# EAGLE library part STM32F373CCT6 (library pro3E)
MCU, 32BIT, CORTEX M4, 48LQFP
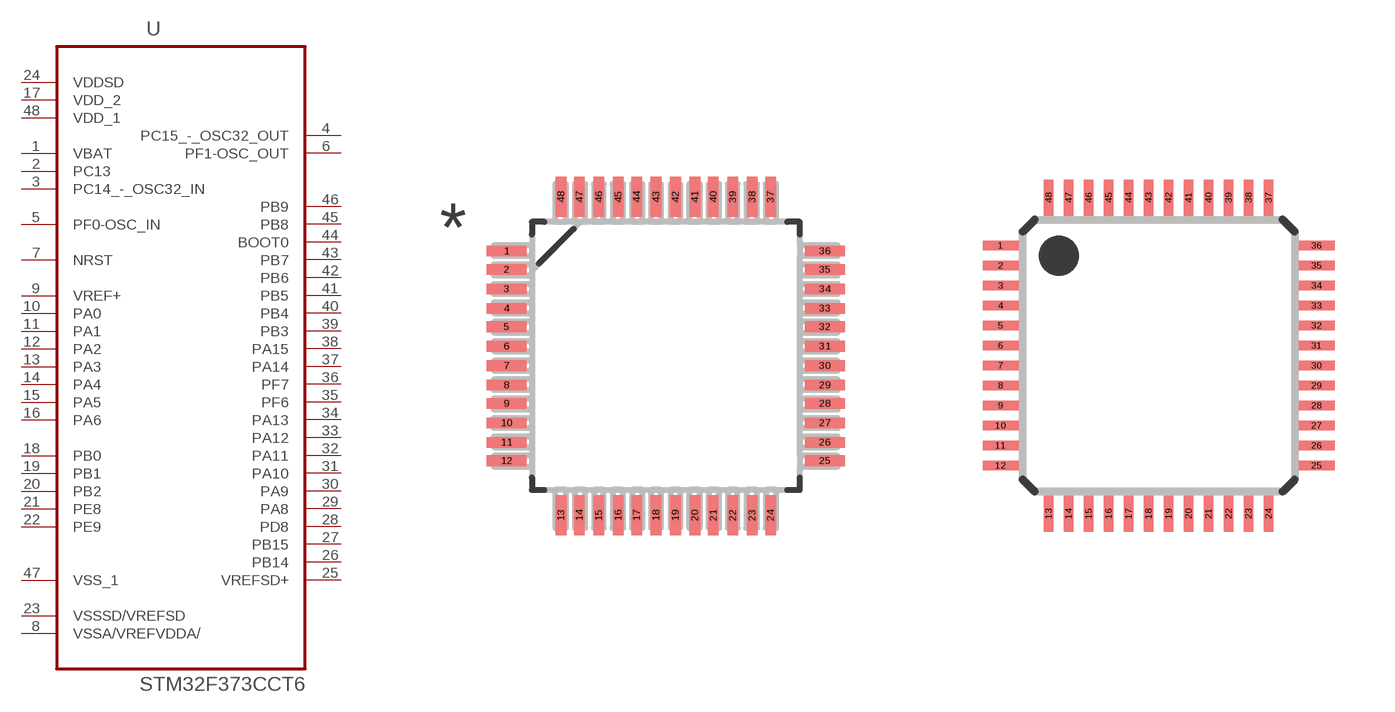
[diagram p3: symbol with the pads of QFP50P900X900X160-48N; footprints QFP50P900X900X160-48N, LQFP48-7X7]

Designator prefix U

## STM32F373CCT6 (MPN: STM32F373CCT6; OC_FARNELL: 2215117; OC_NEWARK: 46W2195; PACKAGE: 48LQFP; SUPPLIER: STMicroelectronics)  [QFP50P900X900X160-48N]
1  VBAT  pas
2  PC13
3  PC14_-_OSC32_IN
4  PC15_-_OSC32_OUT
5  PF0-OSC_IN
6  PF1-OSC_OUT
7  NRST  pas
8  VSSA/VREFVDDA/  pwr
9  VREF+  pas
10  PA0
11  PA1
12  PA2
13  PA3
14  PA4
15  PA5
16  PA6
17  VDD_2  pwr
18  PB0
19  PB1
20  PB2
21  PE8
22  PE9
23  VSSSD/VREFSD  pwr
24  VDDSD  pwr
25  VREFSD+  pas
26  PB14
27  PB15
28  PD8
29  PA8
30  PA9
31  PA10
32  PA11
33  PA12
34  PA13
35  PF6
36  PF7
37  PA14
38  PA15
39  PB3
40  PB4
41  PB5
42  PB6
43  PB7
44  BOOT0  pas
45  PB8
46  PB9
47  VSS_1  pwr
48  VDD_1  pwr

## STM32F373CCT6LQFP48-7X7  [LQFP48-7X7]
Pads as for QFP50P900X900X160-48N

## Footprint QFP50P900X900X160-48N (pad centres in mm)
smd 1.041 x 0.279: 1 -4.166,2.743; 2 -4.166,2.261; 3 -4.166,1.753; 4 -4.166,1.245; 5 -4.166,0.762; 6 -4.166,0.254; 7 -4.166,-0.254; 8 -4.166,-0.762; 9 -4.166,-1.245; 10 -4.166,-1.753; 11 -4.166,-2.261; 12 -4.166,-2.743; 25 4.166,-2.743; 26 4.166,-2.261; 27 4.166,-1.753; 28 4.166,-1.245; 29 4.166,-0.762; 30 4.166,-0.254; 31 4.166,0.254; 32 4.166,0.762; 33 4.166,1.245; 34 4.166,1.753; 35 4.166,2.261; 36 4.166,2.743
smd 0.279 x 1.041: 13 -2.743,-4.166; 14 -2.261,-4.166; 15 -1.753,-4.166; 16 -1.245,-4.166; 17 -0.762,-4.166; 18 -0.254,-4.166; 19 0.254,-4.166; 20 0.762,-4.166; 21 1.245,-4.166; 22 1.753,-4.166; 23 2.261,-4.166; 24 2.743,-4.166; 37 2.743,4.166; 38 2.261,4.166; 39 1.753,4.166; 40 1.245,4.166; 41 0.762,4.166; 42 0.254,4.166; 43 -0.254,4.166; 44 -0.762,4.166; 45 -1.245,4.166; 46 -1.753,4.166; 47 -2.261,4.166; 48 -2.743,4.166

## Footprint LQFP48-7X7 (pad centres in mm)
48-pin low profile quad flat package (7 x 7) Source: Data sheet <http://www.st.com/stonline/products/literature/ds/14771/stm8s105c4.pdf>
smd 0.9 x 0.24: 1 -3.95,2.75; 2 -3.95,2.25; 3 -3.95,1.75; 4 -3.95,1.25; 5 -3.95,0.75; 6 -3.95,0.25; 7 -3.95,-0.25; 8 -3.95,-0.75; 9 -3.95,-1.25; 10 -3.95,-1.75; 11 -3.95,-2.25; 12 -3.95,-2.75; 25 3.95,-2.75; 26 3.95,-2.25; 27 3.95,-1.75; 28 3.95,-1.25; 29 3.95,-0.75; 30 3.95,-0.25; 31 3.95,0.25; 32 3.95,0.75; 33 3.95,1.25; 34 3.95,1.75; 35 3.95,2.25; 36 3.95,2.75
smd 0.24 x 0.9: 13 -2.75,-3.95; 14 -2.25,-3.95; 15 -1.75,-3.95; 16 -1.25,-3.95; 17 -0.75,-3.95; 18 -0.25,-3.95; 19 0.25,-3.95; 20 0.75,-3.95; 21 1.25,-3.95; 22 1.75,-3.95; 23 2.25,-3.95; 24 2.75,-3.95; 37 2.75,3.95; 38 2.25,3.95; 39 1.75,3.95; 40 1.25,3.95; 41 0.75,3.95; 42 0.25,3.95; 43 -0.25,3.95; 44 -0.75,3.95; 45 -1.25,3.95; 46 -1.75,3.95; 47 -2.25,3.95; 48 -2.75,3.95